# EAGLE library part 74LVC574 (library 1_spektrak)
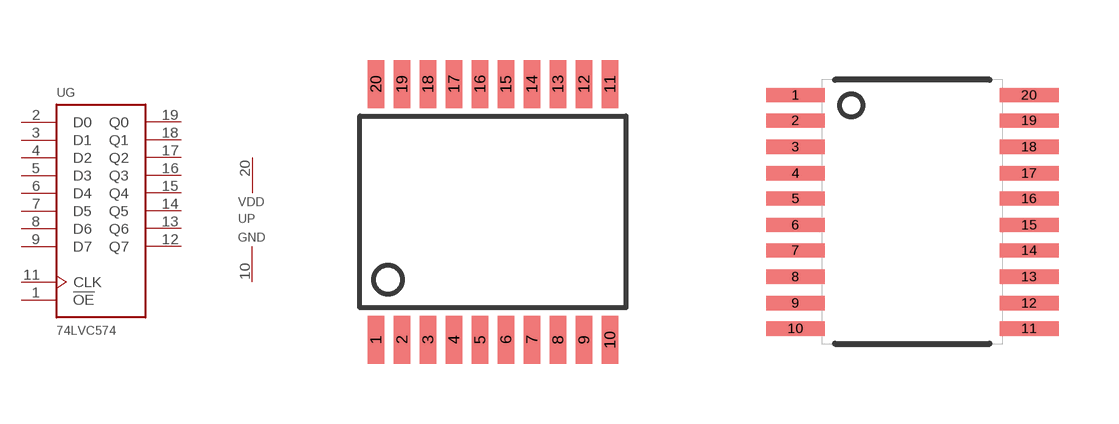
[diagram p16: symbol with the pads of TSSOP20-OLD; footprints TSSOP20-OLD, TSSOP20]

Designator prefix U; gates G=74LVC574 P=PWRGND

## 74LVC574'OLD'  [TSSOP20-OLD]
1  G:!OE  in
2  G:D0  in
3  G:D1  in
4  G:D2  in
5  G:D3  in
6  G:D4  in
7  G:D5  in
8  G:D6  in
9  G:D7  in
10  P:GND  pwr
11  G:CLK  in
12  G:Q7  out
13  G:Q6  out
14  G:Q5  out
15  G:Q4  out
16  G:Q3  out
17  G:Q2  out
18  G:Q1  out
19  G:Q0  out
20  P:VDD  pwr

## 74LVC574TSSOP20  [TSSOP20]
Pads as for TSSOP20-OLD

## 74LVC574  [SOT339]
Pads as for TSSOP20-OLD

## Footprint TSSOP20-OLD (pad centres in mm)
smd 0.406 x 1.2: 1 -2.54,-3.175; 2 -1.89,-3.175; 3 -1.24,-3.175; 4 -0.59,-3.175; 5 0.06,-3.175; 6 0.71,-3.175; 7 1.36,-3.175; 8 2.01,-3.175; 9 2.66,-3.175; 10 3.31,-3.175; 11 3.31,3.225; 12 2.66,3.225; 13 2.01,3.225; 14 1.36,3.225; 15 0.71,3.225; 16 0.06,3.225; 17 -0.59,3.225; 18 -1.24,3.225; 19 -1.89,3.225; 20 -2.54,3.225

## Footprint TSSOP20 (pad centres in mm)
smd 1.473 x 0.356: 1 -2.921,2.921; 2 -2.921,2.286; 3 -2.921,1.626; 4 -2.921,0.965; 5 -2.921,0.33; 6 -2.921,-0.33; 7 -2.921,-0.965; 8 -2.921,-1.626; 9 -2.921,-2.286; 10 -2.921,-2.921; 11 2.921,-2.921; 12 2.921,-2.286; 13 2.921,-1.626; 14 2.921,-0.965; 15 2.921,-0.33; 16 2.921,0.33; 17 2.921,0.965; 18 2.921,1.626; 19 2.921,2.286; 20 2.921,2.921

## Footprint SOT339 (pad centres in mm)
smd 0.432 x 1.448: 1 -2.925,-3.901; 2 -2.275,-3.901; 3 -1.625,-3.901; 4 -0.975,-3.901; 5 -0.325,-3.901; 6 0.325,-3.901; 7 0.975,-3.901; 8 1.625,-3.901; 9 2.275,-3.901; 10 2.925,-3.901; 11 2.925,3.899; 12 2.275,3.899; 13 1.625,3.899; 14 0.975,3.899; 15 0.325,3.899; 16 -0.325,3.899; 17 -0.975,3.899; 18 -1.625,3.899; 19 -2.275,3.899; 20 -2.925,3.899